# EAGLE library part ENC28J60-* (library enc28j60centered)
Microchip 10Mbit Ethernet controller with SPI interface Improved SOIC28 layout (pads in 0.01 raster, pin1 slightly smaller). Pin 6 (SO) changed from Out (paralleling several Outs gives an error) to OC. Author: Profi from mikrocontroller.net - forum Date: 2006.0827
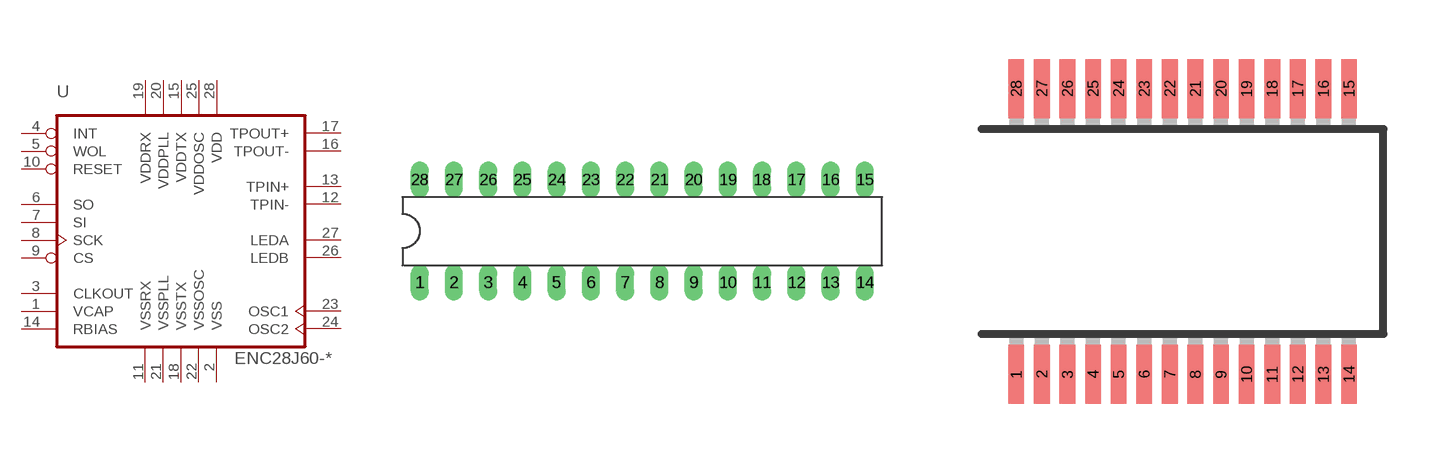
[diagram p0: symbol with the pads of DIL28-3; footprints DIL28-3, SSOP28]

Designator prefix U

## ENC28J60-DIL  [DIL28-3]
1  VCAP  pwr
2  VSS  pwr
3  CLKOUT  out
4  INT  out
5  WOL  out
6  SO  oc
7  SI  in
8  SCK  in
9  CS  in
10  RESET  in
11  VSSRX  pwr
12  TPIN-  in
13  TPIN+  in
14  RBIAS  pas
15  VDDTX  pwr
16  TPOUT-  out
17  TPOUT+  out
18  VSSTX  pwr
19  VDDRX  pwr
20  VDDPLL  pwr
21  VSSPLL  pwr
22  VSSOSC  pwr
23  OSC1  in
24  OSC2  out
25  VDDOSC  pwr
26  LEDB  out
27  LEDA  out
28  VDD  pwr

## ENC28J60-SSOP  [SSOP28]
Pads as for DIL28-3

## ENC28J60-SO  [SO28W]
Pads as for DIL28-3

## Footprint DIL28-3 (pad centres in mm)
Dual In Line package type P
drill 0.813 long: 1 -16.51,-3.81; 2 -13.97,-3.81; 3 -11.43,-3.81; 4 -8.89,-3.81; 5 -6.35,-3.81; 6 -3.81,-3.81; 7 -1.27,-3.81; 8 1.27,-3.81; 9 3.81,-3.81; 10 6.35,-3.81; 11 8.89,-3.81; 12 11.43,-3.81; 13 13.97,-3.81; 14 16.51,-3.81; 15 16.51,3.81; 16 13.97,3.81; 17 11.43,3.81; 18 8.89,3.81; 19 6.35,3.81; 20 3.81,3.81; 21 1.27,3.81; 22 -1.27,3.81; 23 -3.81,3.81; 24 -6.35,3.81; 25 -8.89,3.81; 26 -11.43,3.81; 27 -13.97,3.81; 28 -16.51,3.81

## Footprint SSOP28 (pad centres in mm)
Shrink Small Outline Package package type SS
smd 0.4 x 1.5: 1 -4.225,-3.625; 2 -3.575,-3.625; 3 -2.925,-3.625; 4 -2.275,-3.625; 5 -1.625,-3.625; 6 -0.975,-3.625; 7 -0.325,-3.625; 8 0.325,-3.625; 9 0.975,-3.625; 10 1.625,-3.625; 11 2.275,-3.625; 12 2.925,-3.625; 13 3.575,-3.625; 14 4.225,-3.625; 15 4.225,3.625; 16 3.575,3.625; 17 2.925,3.625; 18 2.275,3.625; 19 1.625,3.625; 20 0.975,3.625; 21 0.325,3.625; 22 -0.325,3.625; 23 -0.975,3.625; 24 -1.625,3.625; 25 -2.275,3.625; 26 -2.925,3.625; 27 -3.575,3.625; 28 -4.225,3.625

## Footprint SO28W (pad centres in mm)
28-Lead Plastic Small Outline (SO) Wide, 300 mil Body (SOIC) Source: http://ww1.microchip.com/downloads/en/devicedoc/39632c.pdf Improved: pads in 0.01" raster. Pin 1 slightly smaller.
smd 0.635 x 1.778: 1 -8.255,-4.572
smd 0.635 x 2.032: 2 -6.985,-4.572; 3 -5.715,-4.572; 4 -4.445,-4.572; 5 -3.175,-4.572; 6 -1.905,-4.572; 7 -0.635,-4.572; 8 0.635,-4.572; 9 1.905,-4.572; 10 3.175,-4.572; 11 4.445,-4.572; 12 5.715,-4.572; 13 6.985,-4.572; 14 8.255,-4.572; 15 8.255,4.572; 16 6.985,4.572; 17 5.715,4.572; 18 4.445,4.572; 19 3.175,4.572; 20 1.905,4.572; 21 0.635,4.572; 22 -0.635,4.572; 23 -1.905,4.572; 24 -3.175,4.572; 25 -4.445,4.572; 26 -5.715,4.572; 27 -6.985,4.572; 28 -8.255,4.572